# EAGLE library part JST-SH-8 (library con-JST-SH)
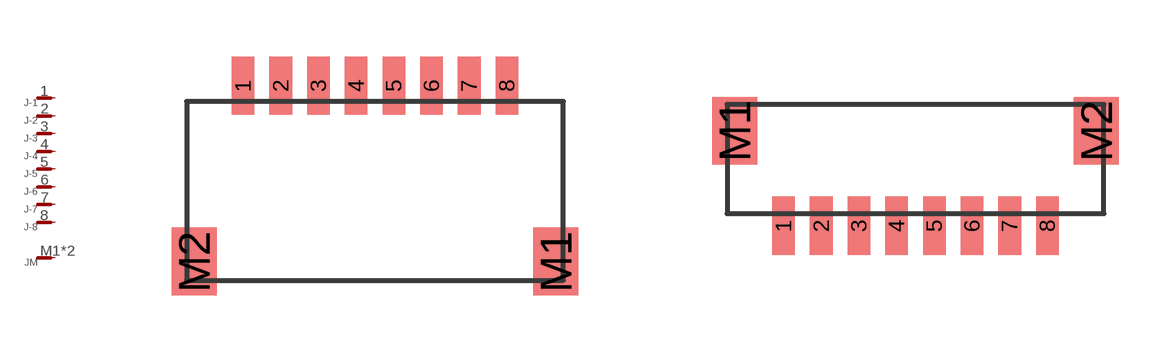
[diagram p2: symbol with the pads of SM08B-SRSS-TB; footprints SM08B-SRSS-TB, BM08B-SRSS-TB]

Designator prefix J; gates -1=PIN -2=PIN -3=PIN -4=PIN -5=PIN -6=PIN -7=PIN -8=PIN M=PIN

## JST-SH-8_RA (MF: JST; MPN: SM08B-SRSS-TB)  [SM08B-SRSS-TB]
1  -1:P
2  -2:P
3  -3:P
4  -4:P
5  -5:P
6  -6:P
7  -7:P
8  -8:P
M1  M:P
M2  M:P

## JST-SH-8_V (MF: JST; MPN: BM08B-SRSS-TB)  [BM08B-SRSS-TB]
Pads as for SM08B-SRSS-TB

## Footprint SM08B-SRSS-TB (pad centres in mm)
JST-SH (1.25mm) 8-pin surface-mount right-angle Wire-Board Connector
smd 0.6 x 1.55: 1 -3.5,4.675; 2 -2.5,4.675; 3 -1.5,4.675; 4 -0.5,4.675; 5 0.5,4.675; 6 1.5,4.675; 7 2.5,4.675; 8 3.5,4.675
smd 1.2 x 1.8: M1 4.8,0; M2 -4.8,0

## Footprint BM08B-SRSS-TB (pad centres in mm)
JST-SH (1.25mm) 8-pin surface-mount right-angle Wire-Board Connector
smd 0.6 x 1.55: 1 -3.5,-1.325; 2 -2.5,-1.325; 3 -1.5,-1.325; 4 -0.5,-1.325; 5 0.5,-1.325; 6 1.5,-1.325; 7 2.5,-1.325; 8 3.5,-1.325
smd 1.2 x 1.8: M1 -4.8,1.2; M2 4.8,1.2